# Altium schematic symbol library Schlib_POW_HugoHamblok.SchLib: 45 symbols
Pins are listed as number, name and electrical type; pins without a type are passive.

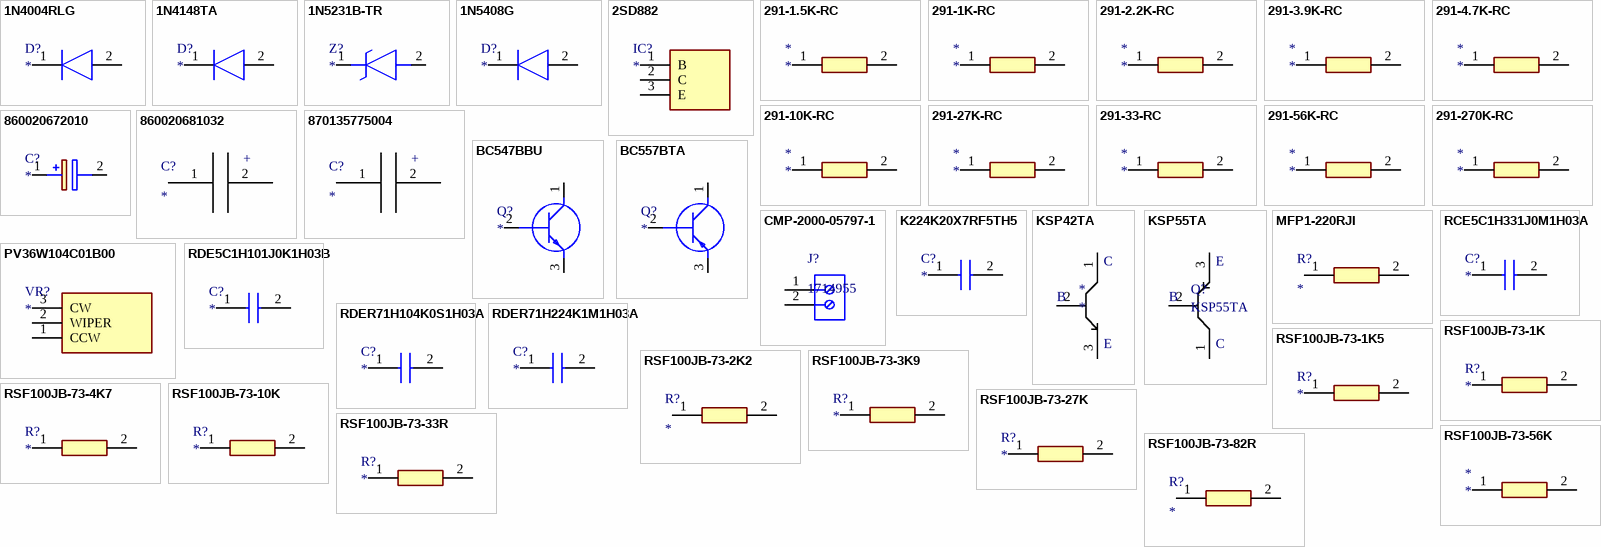
[diagram p0: symbols 1N4004RLG to RSF100JB-73-82R]

## 1N4004RLG
designator D?
Diode; Manufacturer_Name: ON Semiconductor; Manufacturer_Part_Number: 1N4004RLG; Datasheet Link: http://www.onsemi.com/pub/Collateral/1N4001-D.PDF; Mouser Part Number: 863-1N4004RLG; Mouser Price/Stock: https://www.mouser.com/Search/Refine.aspx?Keyword=863-1N4004RLG; RS Part Number: 1844627P; RS Price/Stock: http://uk.rs-online.com/web/p/products/1844627P
footprint DIOAD1405W86L465D235
pins: 1 K, 2 A

## 1N4148TA
designator D?
Diode; Manufacturer_Name: ON Semiconductor; Manufacturer_Part_Number: 1N4148TA; Datasheet Link: https://www.fairchildsemi.com/datasheets/1N/1N914.pdf; Mouser Part Number: 512-1N4148TA; Mouser Price/Stock: https://www.mouser.com/Search/Refine.aspx?Keyword=512-1N4148TA; RS Part Number: 7390290P; RS Price/Stock: http://uk.rs-online.com/web/p/products/7390290P
footprint DIOAD1068W53L380D172
pins: 1 K, 2 A

## 1N5231B-TR
designator Z?
Zener Diode; Manufacturer_Name: Vishay; Manufacturer_Part_Number: 1N5231B-TR; Allied_Number: 70061636; Datasheet Link: http://www.vishay.com/docs/85588/1n5221.pdf; Mouser Part Number: 78-1N5231B; Mouser Price/Stock: https://www.mouser.com/Search/Refine.aspx?Keyword=78-1N5231B; RS Part Number: 8115967P; RS Price/Stock: http://uk.rs-online.com/web/p/products/8115967P; Allied Price/Stock: https://www.alliedelec.com/vishay-smallsignal-optoproducts-ssp-1n5231b-tr/70061636/
footprint DIOAD990W55L350D160
pins: 1 K, 2 A

## 1N5408G
designator D?
Diode; Manufacturer_Name: ON Semiconductor; Manufacturer_Part_Number: 1N5408G; Allied_Number: 70099678; Datasheet Link: http://www.onsemi.com/pub/Collateral/1N5400-D.PDF; Mouser Part Number: 863-1N5408G; Mouser Price/Stock: https://www.mouser.com/Search/Refine.aspx?Keyword=863-1N5408G; RS Part Number: 7743344P; RS Price/Stock: http://uk.rs-online.com/web/p/products/7743344P; Allied Price/Stock: http://www.alliedelec.com/on-semiconductor-1n5408g/70099678/
footprint DIOAD2860W130L840D505
pins: 1 K, 2 A

## 2SD882
designator IC?
Integrated Circuit; Manufacturer_Name: STMicroelectronics; Manufacturer_Part_Number: 2SD882; Allied_Number: 70389765; Datasheet Link: http://www.st.com/web/en/resource/technical/document/datasheet/CD00062867.pdf; Height: 2.9mm; Mouser Part Number: 511-2SD882; Mouser Price/Stock: https://www.mouser.com/Search/Refine.aspx?Keyword=511-2SD882; RS Part Number: 6868045P; RS Price/Stock: http://uk.rs-online.com/web/p/products/6868045P; Allied Price/Stock: http://www.alliedelec.com/stmicroelectronics-2sd882/70389765/
footprint TO254P290X760X1320-3P
pins: 1 B, 2 C, 3 E

## 291-1.5K-RC
designator *
footprint 291-XXX-RC-Type
pins: 1, 2

## 291-1K-RC
designator *
footprint 291-XXX-RC-Type
pins: 1, 2

## 291-2.2K-RC
designator *
footprint 291-XXX-RC-Type
pins: 1, 2

## 291-3.9K-RC
designator *
footprint 291-XXX-RC-Type
pins: 1, 2

## 291-4.7K-RC
designator *
footprint 291-XXX-RC-Type
pins: 1, 2

## 291-10K-RC
designator *
footprint 291-XXX-RC-Type
pins: 1, 2

## 291-27K-RC
designator *
footprint 291-XXX-RC-Type
pins: 1, 2

## 291-33-RC
designator *
footprint 291-XXX-RC-Type
pins: 1, 2

## 291-56K-RC
designator *
footprint 291-XXX-RC-Type
pins: 1, 2

## 291-270K-RC
designator *
footprint 291-XXX-RC-Type
pins: 1, 2

## 860020672010
designator C?
Capacitor Polarised; Manufacturer_Name: Wurth Elektronik; Manufacturer_Part_Number: 860020672010; Datasheet Link: https://katalog.we-online.de/pbs/datasheet/860020672010.pdf; Height: 12.5mm; Mouser Part Number: 710-860020672010; Mouser Price/Stock: https://www.mouser.com/Search/Refine.aspx?Keyword=710-860020672010; RS Part Number: 8396621P; RS Price/Stock: http://uk.rs-online.com/web/p/products/8396621P
footprint CAPPRD200W52D500H1250
pins: 1 +, 2 -

## 860020681032
designator C?
Capacitor 3300uF 50V
footprint 860020681032
pins: 1, 2
text: +

## 870135775004
designator C?
Capacitor 47uF 50V
footprint 870135775004
pins: 1, 2
text: +

## BC547BBU
designator Q?
Transistor BJT NPN; Manufacturer_Name: ON Semiconductor; Manufacturer_Part_Number: BC547BBU; Datasheet Link: http://www.onsemi.com/pub/Collateral/BC550-D.pdf; Mouser Part Number: 512-BC547BBU; Mouser Price/Stock: https://www.mouser.com/Search/Refine.aspx?Keyword=512-BC547BBU; RS Part Number: 8031083P; RS Price/Stock: http://uk.rs-online.com/web/p/products/8031083P
footprint SS9018HBU
pins: 1 C, 2 B, 3 E

## BC557BTA
designator Q?
Transistor BJT PNP; Manufacturer_Name: ON Semiconductor; Manufacturer_Part_Number: BC557BTA; Datasheet Link: https://componentsearchengine.com/Datasheets/2/BC557BTA.pdf; Height: 4.19mm; Mouser Part Number: 512-BC557BTA; Mouser Price/Stock: https://www.mouser.com/Search/Refine.aspx?Keyword=512-BC557BTA; RS Part Number: 7613505P; RS Price/Stock: http://uk.rs-online.com/web/p/products/7613505P
footprint TO260P419X476X877-3P
pins: 1 C, 2 B, 3 E

## CMP-2000-05797-1
designator J?, comment 1714955
PC Terminal Block, Pitch 6.35 mm, 1 x 2 Position, Height 21.5 mm, Tail Lenght 5.1 mm, RoHS, Bulk; Manufacturer: Phoenix Contact; Package Description: PC Terminal Block, Pitch 6.35 mm, 1 x 2 Position, Height 21.5 mm, Tail Lenght 5.1 mm; Datasheet URL: http://media.digikey.com/pdf/Data%20Sheets/Phoenix%20Contact%20PDFs/1714955.pdf; Package Reference: 1714955; Manufacturer URL: http://www.phoenixcontact.com/; Datasheet Version: 02/2010; Mounting Technology: ThroughHole
footprint PHOE-1714955_V (Terminal Block, 2-Leads, Body 12.7x12.5mm, Pitch 6.35mm)
pins: 1, 2

## K224K20X7RF5TH5
designator C?
Capacitor; Manufacturer_Name: Vishay; Manufacturer_Part_Number: K224K20X7RF5TH5; Allied_Number: 70122947; Datasheet Link: http://www.vishay.com/docs/45171/kseries.pdf; Height: 5mm; Mouser Part Number: 594-K224K20X7RF5TH5; Mouser Price/Stock: https://www.mouser.com/Search/Refine.aspx?Keyword=594-K224K20X7RF5TH5; RS Part Number: 8523328; RS Price/Stock: http://uk.rs-online.com/web/p/products/8523328; Allied Price/Stock: https://www.alliedelec.com/bccomponents-vishay-k224k20x7rf5th5/70122947/
footprint K224K20X7RF5TH5
pins: 1, 2

## KSP42TA
designator *
Transistor
footprint KSP55TA (Transistor)
pins: 1, 2, 3
text: C; B; E

## KSP55TA
designator Q?
Transistor
footprint KSP55TA (Transistor)
pins: 1, 2, 3
text: E; B; C

## MFP1-220RJI
designator R?
Resistor 220 ohm 5% 1W
footprint MFP1-220RJI
pins: 1, 2

## PV36W104C01B00
designator VR?
Variable Resistor; Manufacturer_Name: Bourns; Manufacturer_Part_Number: PV36W104C01B00; Allied_Number: 71024705; Datasheet Link: https://www.bourns.com/docs/Product-Datasheets/pv36.pdf; Mouser Part Number: 81-PV36W104C01B00; Mouser Price/Stock: https://www.mouser.com/Search/Refine.aspx?Keyword=81-PV36W104C01B00; RS Part Number: 7692160P; RS Price/Stock: http://uk.rs-online.com/web/p/products/7692160P; Allied Price/Stock: https://www.alliedelec.com/bourns-pv36w104c01b00/71024705/
footprint PV36W
pins: 1 CCW, 2 WIPER, 3 CW

## RCE5C1H331J0M1H03A
designator C?
Capacitor; Manufacturer_Name: Murata Electronics; Manufacturer_Part_Number: RCE5C1H331J0M1H03A; Datasheet Link: https://psearch.en.murata.com/capacitor/product/RCE5C1H331J0M1H03A.html; Height: 5mm
footprint RCE5C1H100J0A2H03B
pins: 1, 2

## RDE5C1H101J0K1H03B
designator C?
Capacitor; Manufacturer_Name: Murata Electronics; Manufacturer_Part_Number: RDE5C1H101J0K1H03B; Datasheet Link: https://psearch.en.murata.com/capacitor/product/RDE5C1H101J0K1H03B.html; Height: 5mm; Mouser Part Number: 81-RDE5C1H101J0K1H3B; Mouser Price/Stock: https://www.mouser.com/Search/Refine.aspx?Keyword=81-RDE5C1H101J0K1H3B
footprint RCE5C1H103J1A2H03B
pins: 1, 2

## RDER71H104K0S1H03A
designator C?
Capacitor; Manufacturer_Name: Murata Electronics; Manufacturer_Part_Number: RDER71H104K0S1H03A; Datasheet Link: https://psearch.en.murata.com/capacitor/product/RDER71H104K0S1H03A.html; Height: 6mm; Mouser Part Number: 81-RDER71H104K0S1H3A; Mouser Price/Stock: https://www.mouser.com/Search/Refine.aspx?Keyword=81-RDER71H104K0S1H3A
footprint RDE5C1H100J0P1H03B
pins: 1, 2

## RDER71H224K1M1H03A
designator C?
Capacitor; Manufacturer_Name: Murata Electronics; Manufacturer_Part_Number: RDER71H224K1M1H03A; Datasheet Link: https://psearch.en.murata.com/capacitor/product/RDER71H224K1M1H03A.html; Height: 5mm; Mouser Part Number: 81-RDER71H224K1M1H3A; Mouser Price/Stock: https://www.mouser.com/Search/Refine.aspx?Keyword=81-RDER71H224K1M1H3A; RS Part Number: 1335724P; RS Price/Stock: http://uk.rs-online.com/web/p/products/1335724P
footprint RDE5C1H103J1K1H03B
pins: 1, 2

## RSF100JB-73-1K
designator R?
Resistor 1K 1W
footprint RSF100 Style Footprint
pins: 1, 2

## RSF100JB-73-1K5
designator R?
Resitor 1.5K 1W
footprint RSF100 Style Footprint
pins: 1, 2

## RSF100JB-73-2K2
designator R?
Resistor 1W 2.2K Ohm 5%; Manufacturer_Name: YAGEO (PHYCOMP); Manufacturer_Part_Number: RSF100JB-73-2K2; Datasheet Link: https://www.mouser.com/datasheet/2/447/Yageo LR_RSF_2013-594715.pdf; Mouser Part Number: 603-RSF100JB-73-2K2; Mouser Price/Stock: https://www.mouser.com/Search/Refine.aspx?Keyword=603-RSF100JB-73-2K2
footprint RSF100 Style Footprint
pins: 1, 2

## RSF100JB-73-3K9
designator R?
Resistor 3.9K
footprint RSF100 Style Footprint
pins: 1, 2

## RSF100JB-73-4K7
designator R?
Resitor 4.7K
footprint RSF100 Style Footprint
pins: 1, 2

## RSF100JB-73-10K
designator R?
Resistor 10K
footprint RSF100 Style Footprint
pins: 1, 2

## RSF100JB-73-27K
designator R?
Resistor 27K
pins: 1, 2

## RSF100JB-73-33R
designator R?
Resistor 33 Ohm
footprint RSF100 Style Footprint
pins: 1, 2

## RSF100JB-73-56K
designator *
Resistor 56K
footprint RSF100 Style Footprint
pins: 1, 2

## RSF100JB-73-82R
designator R?
Resistor 1W 82 Ohm 5%
footprint RSF100 Style Footprint
pins: 1, 2

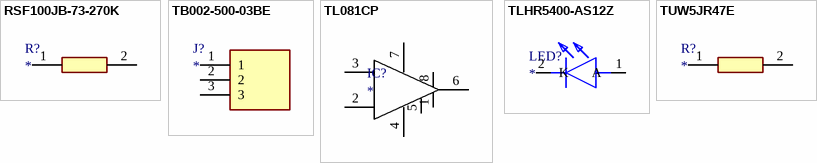
[diagram p1: symbols RSF100JB-73-270K to TUW5JR47E]

## RSF100JB-73-270K
designator R?
Resistor 270k
footprint RSF100 Style Footprint
pins: 1, 2

## TB002-500-03BE
designator J?
Connector; Manufacturer_Name: CUI Devices; Manufacturer_Part_Number: TB002-500-03BE; Datasheet Link: https://www.cuidevices.com/product/resource/tb002-500.pdf; Height: 10mm; Mouser Part Number: 490-TB002-500-03BE; Mouser Price/Stock: https://www.mouser.com/Search/Refine.aspx?Keyword=490-TB002-500-03BE
footprint SHDR3W100P0X500_1X3_1500X760X1000P
pins: 1, 2, 3

## TL081CP
designator IC?
Integrated Circuit; Manufacturer_Name: Texas Instruments; Manufacturer_Part_Number: TL081CP; Datasheet Link: http://www.ti.com/lit/ds/symlink/tl081a.pdf; Height: 5.08mm; Mouser Part Number: 595-TL081CP; Mouser Price/Stock: https://www.mouser.com/Search/Refine.aspx?Keyword=595-TL081CP; RS Part Number: 0304223P; RS Price/Stock: http://uk.rs-online.com/web/p/products/0304223P
footprint DIP794W53P254L959H508Q8N
pins: 1, 2, 3, 4, 5, 6, 7, 8

## TLHR5400-AS12Z
designator LED?
LED; Manufacturer_Name: Vishay; Manufacturer_Part_Number: TLHR5400-AS12Z; Datasheet Link: http://www.vishay.com/docs/83012/tlhg540.pdf; Height: 12.8mm; Mouser Part Number: 78-TLHR5400-AS12Z; Mouser Price/Stock: https://www.mouser.com/Search/Refine.aspx?Keyword=78-TLHR5400-AS12Z
footprint TLHR5400AS12Z
pins: 1 A, 2 K

## TUW5JR47E
designator R?
Resistor; Manufacturer_Name: Ohmite; Manufacturer_Part_Number: TUW5JR47E; Allied_Number: 70024726; Datasheet Link: https://componentsearchengine.com/Datasheets/2/TUW5JR47E.pdf; Mouser Part Number: 588-TUW5JR47E; Mouser Price/Stock: https://www.mouser.com/Search/Refine.aspx?Keyword=588-TUW5JR47E; RS Part Number: 8934166; RS Price/Stock: http://uk.rs-online.com/web/p/products/8934166; Allied Price/Stock: https://www.alliedelec.com/ohmite-tuw5jr47e/70024726/
footprint TUW5JR47E
pins: 1, 2